# EAGLE library part MIMX8MN5DVPIZAA (library MIMX8MN5DVPIZAA)
NXP - MIMX8MN5DVPIZAA - Microprocessor, i.MX 8M Nano UltraLite Quad, 1.4GHz, 32bit, FCBGA-306, 0 C to 95 C Source: Datasheet <https://www.nxp.com/docs/en/data-sheet/IMX8MNCEC.pdf>
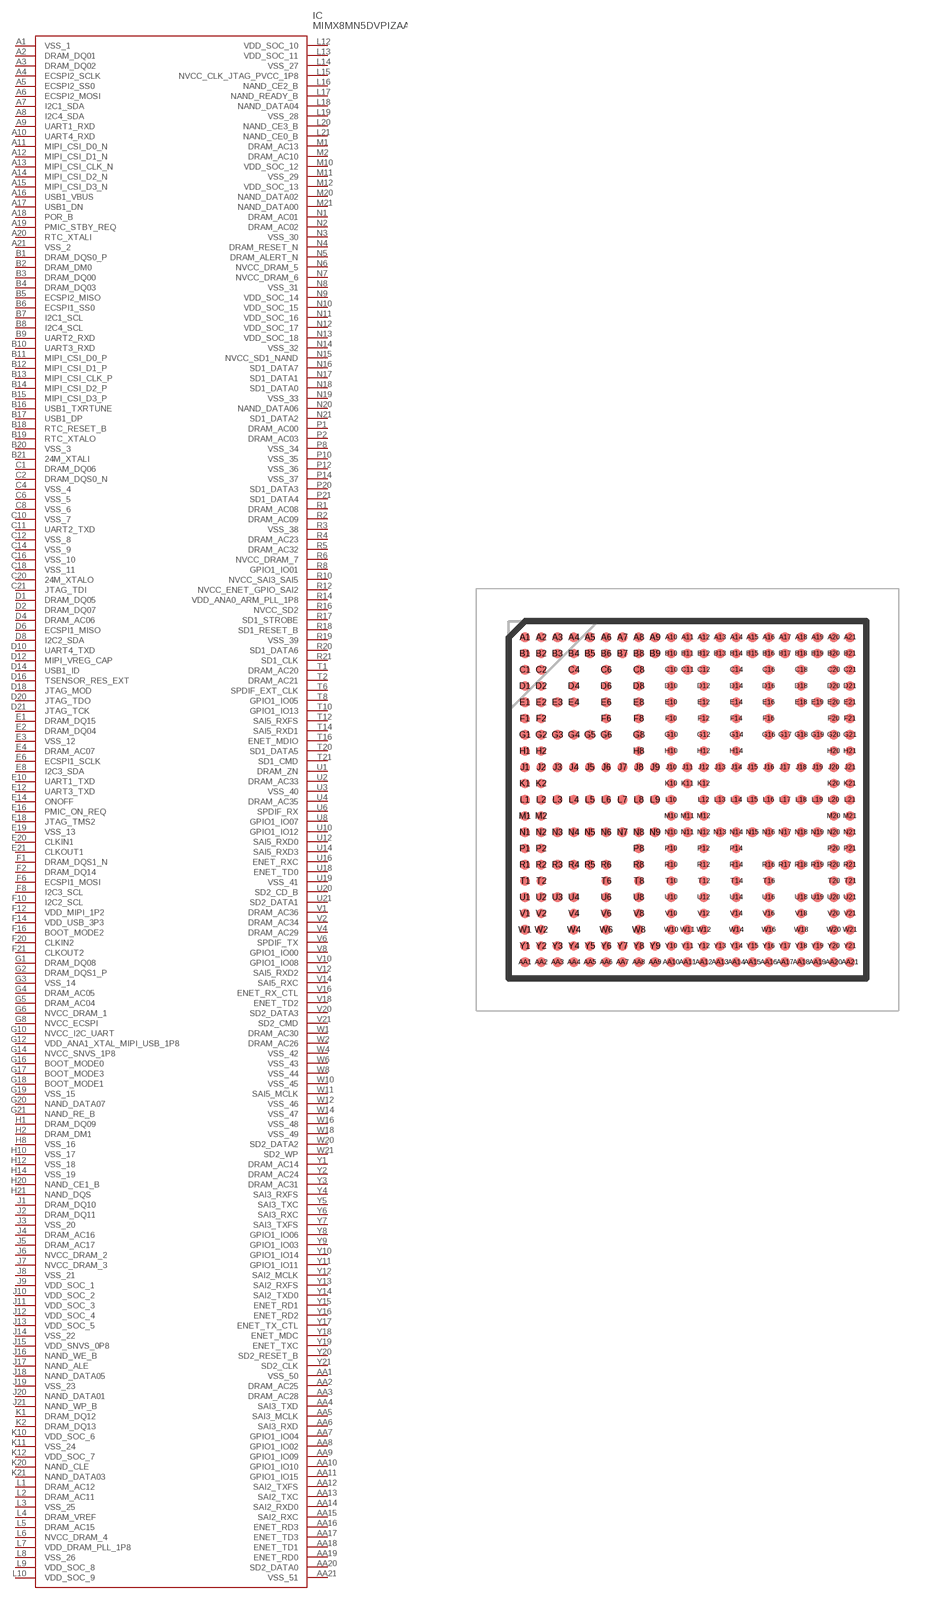
[diagram p0: symbol with the pads of BGA306C50P21X21_1100X1100X101; footprint BGA306C50P21X21_1100X1100X101]

Designator prefix IC

## MIMX8MN5DVPIZAA (Description: NXP - MIMX8MN5DVPIZAA - Microprocessor, i.MX 8M Nano UltraLite Quad, 1.4GHz, 32bit, FCBGA-306, 0 C to 95 C; Height: 1.01mm; Manufacturer_Name: NXP; Manufacturer_Part_Number: MIMX8MN5DVPIZAA)  [BGA306C50P21X21_1100X1100X101]
A1  VSS_1
A2  DRAM_DQ01
A3  DRAM_DQ02
A4  ECSPI2_SCLK
A5  ECSPI2_SS0
A6  ECSPI2_MOSI
A7  I2C1_SDA
A8  I2C4_SDA
A9  UART1_RXD
A10  UART4_RXD
A11  MIPI_CSI_D0_N
A12  MIPI_CSI_D1_N
A13  MIPI_CSI_CLK_N
A14  MIPI_CSI_D2_N
A15  MIPI_CSI_D3_N
A16  USB1_VBUS
A17  USB1_DN
A18  POR_B
A19  PMIC_STBY_REQ
A20  RTC_XTALI
A21  VSS_2
AA1  VSS_50
AA2  DRAM_AC25
AA3  DRAM_AC28
AA4  SAI3_TXD
AA5  SAI3_MCLK
AA6  SAI3_RXD
AA7  GPIO1_IO04
AA8  GPIO1_IO02
AA9  GPIO1_IO09
AA10  GPIO1_IO10
AA11  GPIO1_IO15
AA12  SAI2_TXFS
AA13  SAI2_TXC
AA14  SAI2_RXD0
AA15  SAI2_RXC
AA16  ENET_RD3
AA17  ENET_TD3
AA18  ENET_TD1
AA19  ENET_RD0
AA20  SD2_DATA0
AA21  VSS_51
B1  DRAM_DQS0_P
B2  DRAM_DM0
B3  DRAM_DQ00
B4  DRAM_DQ03
B5  ECSPI2_MISO
B6  ECSPI1_SS0
B7  I2C1_SCL
B8  I2C4_SCL
B9  UART2_RXD
B10  UART3_RXD
B11  MIPI_CSI_D0_P
B12  MIPI_CSI_D1_P
B13  MIPI_CSI_CLK_P
B14  MIPI_CSI_D2_P
B15  MIPI_CSI_D3_P
B16  USB1_TXRTUNE
B17  USB1_DP
B18  RTC_RESET_B
B19  RTC_XTALO
B20  VSS_3
B21  24M_XTALI
C1  DRAM_DQ06
C2  DRAM_DQS0_N
C4  VSS_4
C6  VSS_5
C8  VSS_6
C10  VSS_7
C11  UART2_TXD
C12  VSS_8
C14  VSS_9
C16  VSS_10
C18  VSS_11
C20  24M_XTALO
C21  JTAG_TDI
D1  DRAM_DQ05
D2  DRAM_DQ07
D4  DRAM_AC06
D6  ECSPI1_MISO
D8  I2C2_SDA
D10  UART4_TXD
D12  MIPI_VREG_CAP
D14  USB1_ID
D16  TSENSOR_RES_EXT
D18  JTAG_MOD
D20  JTAG_TDO
D21  JTAG_TCK
E1  DRAM_DQ15
E2  DRAM_DQ04
E3  VSS_12
E4  DRAM_AC07
E6  ECSPI1_SCLK
E8  I2C3_SDA
E10  UART1_TXD
E12  UART3_TXD
E14  ONOFF
E16  PMIC_ON_REQ
E18  JTAG_TMS2
E19  VSS_13
E20  CLKIN1
E21  CLKOUT1
F1  DRAM_DQS1_N
F2  DRAM_DQ14
F6  ECSPI1_MOSI
F8  I2C3_SCL
F10  I2C2_SCL
F12  VDD_MIPI_1P2
F14  VDD_USB_3P3
F16  BOOT_MODE2
F20  CLKIN2
F21  CLKOUT2
G1  DRAM_DQ08
G2  DRAM_DQS1_P
G3  VSS_14
G4  DRAM_AC05
G5  DRAM_AC04
G6  NVCC_DRAM_1
G8  NVCC_ECSPI
G10  NVCC_I2C_UART
G12  VDD_ANA1_XTAL_MIPI_USB_1P8
G14  NVCC_SNVS_1P8
G16  BOOT_MODE0
G17  BOOT_MODE3
G18  BOOT_MODE1
G19  VSS_15
G20  NAND_DATA07
G21  NAND_RE_B
H1  DRAM_DQ09
H2  DRAM_DM1
H8  VSS_16
H10  VSS_17
H12  VSS_18
H14  VSS_19
H20  NAND_CE1_B
H21  NAND_DQS
J1  DRAM_DQ10
J2  DRAM_DQ11
J3  VSS_20
J4  DRAM_AC16
J5  DRAM_AC17
J6  NVCC_DRAM_2
J7  NVCC_DRAM_3
J8  VSS_21
J9  VDD_SOC_1
J10  VDD_SOC_2
J11  VDD_SOC_3
J12  VDD_SOC_4
J13  VDD_SOC_5
J14  VSS_22
J15  VDD_SNVS_0P8
J16  NAND_WE_B
J17  NAND_ALE
J18  NAND_DATA05
J19  VSS_23
J20  NAND_DATA01
J21  NAND_WP_B
K1  DRAM_DQ12
K2  DRAM_DQ13
K10  VDD_SOC_6
K11  VSS_24
K12  VDD_SOC_7
K20  NAND_CLE
K21  NAND_DATA03
L1  DRAM_AC12
L2  DRAM_AC11
L3  VSS_25
L4  DRAM_VREF
L5  DRAM_AC15
L6  NVCC_DRAM_4
L7  VDD_DRAM_PLL_1P8
L8  VSS_26
L9  VDD_SOC_8
L10  VDD_SOC_9
L12  VDD_SOC_10
L13  VDD_SOC_11
L14  VSS_27
L15  NVCC_CLK_JTAG_PVCC_1P8
L16  NAND_CE2_B
L17  NAND_READY_B
L18  NAND_DATA04
L19  VSS_28
L20  NAND_CE3_B
L21  NAND_CE0_B
M1  DRAM_AC13
M2  DRAM_AC10
M10  VDD_SOC_12
M11  VSS_29
M12  VDD_SOC_13
M20  NAND_DATA02
M21  NAND_DATA00
N1  DRAM_AC01
N2  DRAM_AC02
N3  VSS_30
N4  DRAM_RESET_N
N5  DRAM_ALERT_N
N6  NVCC_DRAM_5
N7  NVCC_DRAM_6
N8  VSS_31
N9  VDD_SOC_14
N10  VDD_SOC_15
N11  VDD_SOC_16
N12  VDD_SOC_17
N13  VDD_SOC_18
N14  VSS_32
N15  NVCC_SD1_NAND
N16  SD1_DATA7
N17  SD1_DATA1
N18  SD1_DATA0
N19  VSS_33
N20  NAND_DATA06
N21  SD1_DATA2
P1  DRAM_AC00
P2  DRAM_AC03
P8  VSS_34
P10  VSS_35
P12  VSS_36
P14  VSS_37
P20  SD1_DATA3
P21  SD1_DATA4
R1  DRAM_AC08
R2  DRAM_AC09
R3  VSS_38
R4  DRAM_AC23
R5  DRAM_AC32
R6  NVCC_DRAM_7
R8  GPIO1_IO01
R10  NVCC_SAI3_SAI5
R12  NVCC_ENET_GPIO_SAI2
R14  VDD_ANA0_ARM_PLL_1P8
R16  NVCC_SD2
R17  SD1_STROBE
R18  SD1_RESET_B
R19  VSS_39
R20  SD1_DATA6
R21  SD1_CLK
T1  DRAM_AC20
T2  DRAM_AC21
T6  SPDIF_EXT_CLK
T8  GPIO1_IO05
T10  GPIO1_IO13
T12  SAI5_RXFS
T14  SAI5_RXD1
T16  ENET_MDIO
T20  SD1_DATA5
T21  SD1_CMD
U1  DRAM_ZN
U2  DRAM_AC33
U3  VSS_40
U4  DRAM_AC35
U6  SPDIF_RX
U8  GPIO1_IO07
U10  GPIO1_IO12
U12  SAI5_RXD0
U14  SAI5_RXD3
U16  ENET_RXC
U18  ENET_TD0
U19  VSS_41
U20  SD2_CD_B
U21  SD2_DATA1
V1  DRAM_AC36
V2  DRAM_AC34
V4  DRAM_AC29
V6  SPDIF_TX
V8  GPIO1_IO00
V10  GPIO1_IO08
V12  SAI5_RXD2
V14  SAI5_RXC
V16  ENET_RX_CTL
V18  ENET_TD2
V20  SD2_DATA3
V21  SD2_CMD
W1  DRAM_AC30
W2  DRAM_AC26
W4  VSS_42
W6  VSS_43
W8  VSS_44
W10  VSS_45
W11  SAI5_MCLK
W12  VSS_46
W14  VSS_47
W16  VSS_48
W18  VSS_49
W20  SD2_DATA2
W21  SD2_WP
Y1  DRAM_AC14
Y2  DRAM_AC24
Y3  DRAM_AC31
Y4  SAI3_RXFS
Y5  SAI3_TXC
Y6  SAI3_RXC
Y7  SAI3_TXFS
Y8  GPIO1_IO06
Y9  GPIO1_IO03
Y10  GPIO1_IO14
Y11  GPIO1_IO11
Y12  SAI2_MCLK
Y13  SAI2_RXFS
Y14  SAI2_TXD0
Y15  ENET_RD1
Y16  ENET_RD2
Y17  ENET_TX_CTL
Y18  ENET_MDC
Y19  ENET_TXC
Y20  SD2_RESET_B
Y21  SD2_CLK

## Footprint BGA306C50P21X21_1100X1100X101 (pad centres in mm)
SOT2064-1
smd 0.29 x 0.29: A1 -5,5; A2 -4.5,5; A3 -4,5; A4 -3.5,5; A5 -3,5; A6 -2.5,5; A7 -2,5; A8 -1.5,5; A9 -1,5; A10 -0.5,5; A11 0,5; A12 0.5,5; A13 1,5; A14 1.5,5; A15 2,5; A16 2.5,5; A17 3,5; A18 3.5,5; A19 4,5; A20 4.5,5; A21 5,5; AA1 -5,-5; AA2 -4.5,-5; AA3 -4,-5; AA4 -3.5,-5; AA5 -3,-5; AA6 -2.5,-5; AA7 -2,-5; AA8 -1.5,-5; AA9 -1,-5; AA10 -0.5,-5; AA11 0,-5; AA12 0.5,-5; AA13 1,-5; AA14 1.5,-5; AA15 2,-5; AA16 2.5,-5; AA17 3,-5; AA18 3.5,-5; AA19 4,-5; AA20 4.5,-5; AA21 5,-5; B1 -5,4.5; B2 -4.5,4.5; B3 -4,4.5; B4 -3.5,4.5; B5 -3,4.5; B6 -2.5,4.5; B7 -2,4.5; B8 -1.5,4.5; B9 -1,4.5; B10 -0.5,4.5; B11 0,4.5; B12 0.5,4.5; B13 1,4.5; B14 1.5,4.5; B15 2,4.5; B16 2.5,4.5; B17 3,4.5; B18 3.5,4.5; B19 4,4.5; B20 4.5,4.5; B21 5,4.5; C1 -5,4; C2 -4.5,4; C4 -3.5,4; C6 -2.5,4; C8 -1.5,4; C10 -0.5,4; C11 0,4; C12 0.5,4; C14 1.5,4; C16 2.5,4; C18 3.5,4; C20 4.5,4; C21 5,4; D1 -5,3.5; D2 -4.5,3.5; D4 -3.5,3.5; D6 -2.5,3.5; D8 -1.5,3.5; D10 -0.5,3.5; D12 0.5,3.5; D14 1.5,3.5; D16 2.5,3.5; D18 3.5,3.5; D20 4.5,3.5; D21 5,3.5; E1 -5,3; E2 -4.5,3; E3 -4,3; E4 -3.5,3; E6 -2.5,3; E8 -1.5,3; E10 -0.5,3; E12 0.5,3; E14 1.5,3; E16 2.5,3; E18 3.5,3; E19 4,3; E20 4.5,3; E21 5,3; F1 -5,2.5; F2 -4.5,2.5; F6 -2.5,2.5; F8 -1.5,2.5; F10 -0.5,2.5; F12 0.5,2.5; F14 1.5,2.5; F16 2.5,2.5; F20 4.5,2.5; F21 5,2.5; G1 -5,2; G2 -4.5,2; G3 -4,2; G4 -3.5,2; G5 -3,2; G6 -2.5,2; G8 -1.5,2; G10 -0.5,2; G12 0.5,2; G14 1.5,2; G16 2.5,2; G17 3,2; G18 3.5,2; G19 4,2; G20 4.5,2; G21 5,2; H1 -5,1.5; H2 -4.5,1.5; H8 -1.5,1.5; H10 -0.5,1.5; H12 0.5,1.5; H14 1.5,1.5; H20 4.5,1.5; H21 5,1.5; J1 -5,1; J2 -4.5,1; J3 -4,1; J4 -3.5,1; J5 -3,1; J6 -2.5,1; J7 -2,1; J8 -1.5,1; J9 -1,1; J10 -0.5,1; J11 0,1; J12 0.5,1; J13 1,1; J14 1.5,1; J15 2,1; J16 2.5,1; J17 3,1; J18 3.5,1; J19 4,1; J20 4.5,1; J21 5,1; K1 -5,0.5; K2 -4.5,0.5; K10 -0.5,0.5; K11 0,0.5; K12 0.5,0.5; K20 4.5,0.5; K21 5,0.5; L1 -5,0; L2 -4.5,0; L3 -4,0; L4 -3.5,0; L5 -3,0; L6 -2.5,0; L7 -2,0; L8 -1.5,0; L9 -1,0; L10 -0.5,0; L12 0.5,0; L13 1,0; L14 1.5,0; L15 2,0; L16 2.5,0; L17 3,0; L18 3.5,0; L19 4,0; L20 4.5,0; L21 5,0; M1 -5,-0.5; M2 -4.5,-0.5; M10 -0.5,-0.5; M11 0,-0.5; M12 0.5,-0.5; M20 4.5,-0.5; M21 5,-0.5; N1 -5,-1; N2 -4.5,-1; N3 -4,-1; N4 -3.5,-1; N5 -3,-1; N6 -2.5,-1; N7 -2,-1; N8 -1.5,-1; N9 -1,-1; N10 -0.5,-1; N11 0,-1; N12 0.5,-1; N13 1,-1; N14 1.5,-1; N15 2,-1; N16 2.5,-1; N17 3,-1; N18 3.5,-1; N19 4,-1; N20 4.5,-1; N21 5,-1; P1 -5,-1.5; P2 -4.5,-1.5; P8 -1.5,-1.5; P10 -0.5,-1.5; P12 0.5,-1.5; P14 1.5,-1.5; P20 4.5,-1.5; P21 5,-1.5; R1 -5,-2; R2 -4.5,-2; R3 -4,-2; R4 -3.5,-2; R5 -3,-2; R6 -2.5,-2; R8 -1.5,-2; R10 -0.5,-2; R12 0.5,-2; R14 1.5,-2; R16 2.5,-2; R17 3,-2; R18 3.5,-2; R19 4,-2; R20 4.5,-2; R21 5,-2; T1 -5,-2.5; T2 -4.5,-2.5; T6 -2.5,-2.5; T8 -1.5,-2.5; T10 -0.5,-2.5; T12 0.5,-2.5; T14 1.5,-2.5; T16 2.5,-2.5; T20 4.5,-2.5; T21 5,-2.5; U1 -5,-3; U2 -4.5,-3; U3 -4,-3; U4 -3.5,-3; U6 -2.5,-3; U8 -1.5,-3; U10 -0.5,-3; U12 0.5,-3; U14 1.5,-3; U16 2.5,-3; U18 3.5,-3; U19 4,-3; U20 4.5,-3; U21 5,-3; V1 -5,-3.5; V2 -4.5,-3.5; V4 -3.5,-3.5; V6 -2.5,-3.5; V8 -1.5,-3.5; V10 -0.5,-3.5; V12 0.5,-3.5; V14 1.5,-3.5; V16 2.5,-3.5; V18 3.5,-3.5; V20 4.5,-3.5; V21 5,-3.5; W1 -5,-4; W2 -4.5,-4; W4 -3.5,-4; W6 -2.5,-4; W8 -1.5,-4; W10 -0.5,-4; W11 0,-4; W12 0.5,-4; W14 1.5,-4; W16 2.5,-4; W18 3.5,-4; W20 4.5,-4; W21 5,-4; Y1 -5,-4.5; Y2 -4.5,-4.5; Y3 -4,-4.5; Y4 -3.5,-4.5; Y5 -3,-4.5; Y6 -2.5,-4.5; Y7 -2,-4.5; Y8 -1.5,-4.5; Y9 -1,-4.5; Y10 -0.5,-4.5; Y11 0,-4.5; Y12 0.5,-4.5; Y13 1,-4.5; Y14 1.5,-4.5; Y15 2,-4.5; Y16 2.5,-4.5; Y17 3,-4.5; Y18 3.5,-4.5; Y19 4,-4.5; Y20 4.5,-4.5; Y21 5,-4.5